# Altium footprint library PcbLib_Multivibrator.PcbLib: 5 footprints
Each footprint in its own frame and in the unit in brackets; x right, y up, seen from the top. Pads: shape width x height; smd on the part's side, far side on the other; paste and mask are expansions set on the pad; w line width, h text height; cw(c..) or ccw(c..) is an arc to the next point about the centre after c.
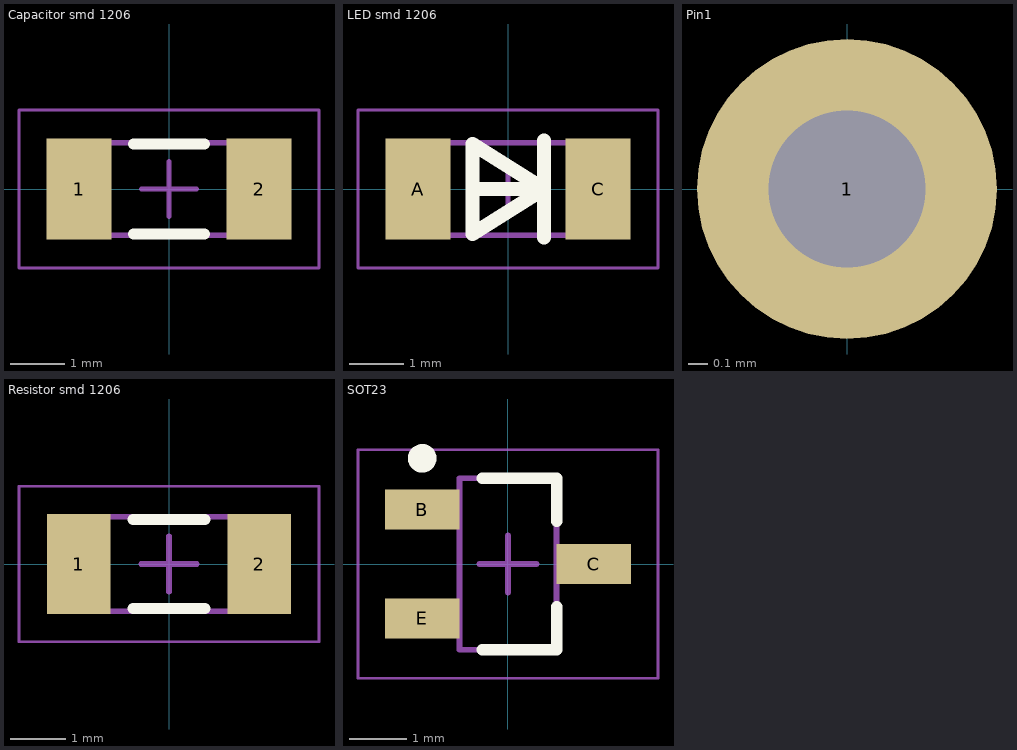
[diagram p0: the footprints below, top view; thin cyan lines are the x and y axes]

## Capacitor smd 1206 [mm] "Chip Capacitor, 2-Leads, Body 3,20x1,60mm, IPC Low Density"
height 0.6
pads (2):
  rect 1.2x1.85 smd: 1(-1.65,0) 2(1.65,0)
Top Overlay:
  lines w0.2: -0.65,-0.825 0.65,-0.825 ; -0.65,0.825 0.65,0.825
Mechanical 13:
  lines w0.1: -1.65,-0.85 -1.65,0.85 1.65,0.85 1.65,-0.85 -1.65,-0.85
Mechanical 15:
  lines w0.05: -2.75,-1.45 -2.75,1.45 2.75,1.45 2.75,-1.45 -2.75,-1.45
  lines w0.1: -0.5,0 0.5,0 ; 0,-0.5 0,0.5
3D body "Capasitor smd 1206.step": height 0.6, standoff 0, extent -1.65,-0.85 1.65,0.85

## LED smd 1206 [mm] "Chip Diode, 2-Leads, Body 3,20x1,60mm, IPC Low Density"
height 0.6
pads (2):
  rect 1.2x1.85 smd: A(-1.65,0) C(1.65,0)
Top Overlay:
  lines w0.254: -0.65,0 0.66,0 ; 0.66,-0.889 0.66,0.889 ; 0.66,0 -0.65,-0.825 -0.65,0.825 0.66,0
Mechanical 13:
  lines w0.1: -1.65,-0.85 1.65,-0.85 1.65,0.85 -1.65,0.85 -1.65,-0.85
Mechanical 15:
  lines w0.05: -2.75,-1.45 2.75,-1.45 2.75,1.45 -2.75,1.45 -2.75,-1.45
  lines w0.1: -0.5,0 0.5,0 ; 0,-0.5 0,0.5
3D body "LED smd 1206.step": height 0.6, standoff 0, extent -1.65,-0.85 1.65,0.85

## Pin1 [mil]
pads (1):
  round 60 hole 31.5: 1(0,0)

## Resistor smd 1206 [mm] "Chip Resistor, 2-Leads, Body 3,20x1,60mm, IPC Low Density"
height 0.6
pads (2):
  rect 1.15x1.8 smd: 1(-1.625,0) 2(1.625,0)
Top Overlay:
  lines w0.2: -0.65,-0.8 0.65,-0.8 ; -0.65,0.8 0.65,0.8
Mechanical 13:
  lines w0.1: -1.65,-0.85 1.65,-0.85 1.65,0.85 -1.65,0.85 -1.65,-0.85
Mechanical 15:
  lines w0.05: -2.7,-1.4 2.7,-1.4 2.7,1.4 -2.7,1.4 -2.7,-1.4
  lines w0.1: -0.5,0 0.5,0 ; 0,-0.5 0,0.5
3D body "Resistor smd 1206.step": height 0.6, standoff 0, extent -1.65,-0.85 1.65,0.85

## SOT23 [mm] "SOT23, 3-Leads, Body 2,85x3,00mm, Pitch 0,95mm, IPC Low Density"
height 1.1
pads (3):
  rect 1.3x0.7 smd: B(-1.5,0.95) C(1.5,0) E(-1.5,-0.95)
Top Overlay:
  circle w0.25: c-1.5,1.85 r0.125
  lines w0.2: -0.45,-1.5 0.85,-1.5 0.85,-0.75 ; -0.45,1.5 0.85,1.5 0.85,0.75
Mechanical 13:
  lines w0.1: -0.85,-1.5 0.85,-1.5 0.85,1.5 -0.85,1.5 -0.85,-1.5
Mechanical 15:
  lines w0.05: -2.625,-2 2.625,-2 2.625,2 -2.625,2 -2.625,-2
  lines w0.1: -0.5,0 0.5,0 ; 0,-0.5 0,0.5
3D body "SOT23.step": height 1.1, standoff 0, extent -1.65,-1.5 1.65,1.5